# Altium schematic symbol library HV_Indicator.SchLib: 4 symbols
Pins are listed as number, name and electrical type; pins without a type are passive.

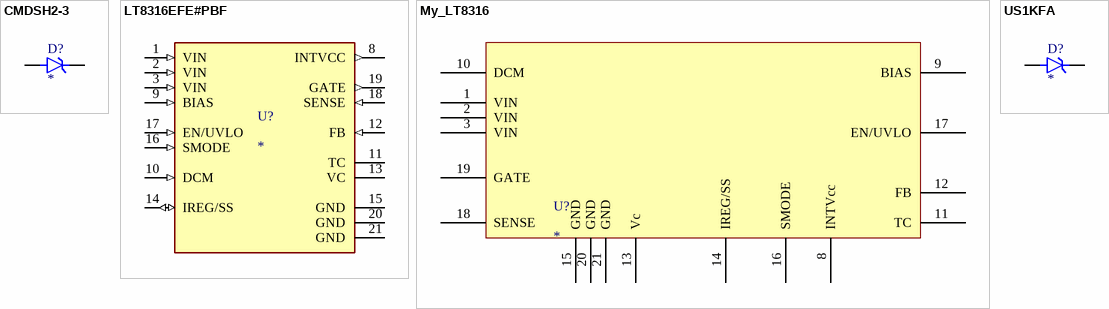
[diagram p0: symbols CMDSH2-3 to US1KFA]

## CMDSH2-3
designator D?
MP: BZY55C9V1 RYG; MF: Taiwan Semiconductor; Price: None; Availability: In Stock; Package: 0805 Taiwan Semiconductor; Value: *; SnapEDA_Link: https://www.snapeda.com/parts/BZY55C9V1%20RYG/Taiwan+Semiconductor/view-part/?ref=snap; Check_prices: https://www.snapeda.com/parts/BZY55C9V1%20RYG/Taiwan+Semiconductor/view-part/?ref=eda; Purchase-URL: https://pricing.snapeda.com/search/part/BZY55C9V1 RYG/?ref=eda
footprint CMDSH2-3
pins: A, C K

## LT8316EFE#PBF
designator U?
560VIN Micropower No-Opto Isolated Flyback Controller; MF: Analog Devices; MP: LT8316EFE#PBF; Value: *; SnapEDA_Link: https://www.snapeda.com/parts/LT8316EFE%23PBF/Analog+Devices/view-part/?ref=snap; Purchase-URL: https://pricing.snapeda.com/search/part/LT8316EFE#PBF/?ref=eda; Availability: In Stock; Price: None; Package: TSSOP -20 Analog Devices; Check_prices: https://www.snapeda.com/parts/LT8316EFE%23PBF/Analog+Devices/view-part/?ref=eda
footprint IC_LT8316EFE#PBF
pins: 1 VIN (in), 2 VIN (in), 3 VIN (in), 8 INTVCC (out), 9 BIAS (in), 10 DCM (in), 11 TC, 12 FB (in), 13 VC, 14 IREG/SS (io), 15 GND (power), 16 SMODE (in), 17 EN/UVLO (in), 18 SENSE (in), 19 GATE (out), 20 GND (power), 21 GND (power)

## My_LT8316
designator U?
footprint IC_LT8316EFE#PBF
pins: 1 VIN, 2 VIN, 3 VIN, 8 INTVcc, 9 BIAS, 10 DCM, 11 TC, 12 FB, 13 Vc, 14 IREG/SS, 15 GND, 16 SMODE, 17 EN/UVLO, 18 SENSE, 19 GATE, 20 GND, 21 GND

## US1KFA
designator D?
MP: BZY55C9V1 RYG; MF: Taiwan Semiconductor; Price: None; Availability: In Stock; Package: 0805 Taiwan Semiconductor; Value: *; SnapEDA_Link: https://www.snapeda.com/parts/BZY55C9V1%20RYG/Taiwan+Semiconductor/view-part/?ref=snap; Check_prices: https://www.snapeda.com/parts/BZY55C9V1%20RYG/Taiwan+Semiconductor/view-part/?ref=eda; Purchase-URL: https://pricing.snapeda.com/search/part/BZY55C9V1 RYG/?ref=eda
footprint US1KFA
pins: A, C K